# Altium footprint library Footprint.PcbLib: 1 footprints
Each footprint in its own frame and in the unit in brackets; x right, y up, seen from the top. Pads: shape width x height; smd on the part's side, far side on the other; paste and mask are expansions set on the pad; w line width, h text height; cw(c..) or ccw(c..) is an arc to the next point about the centre after c.
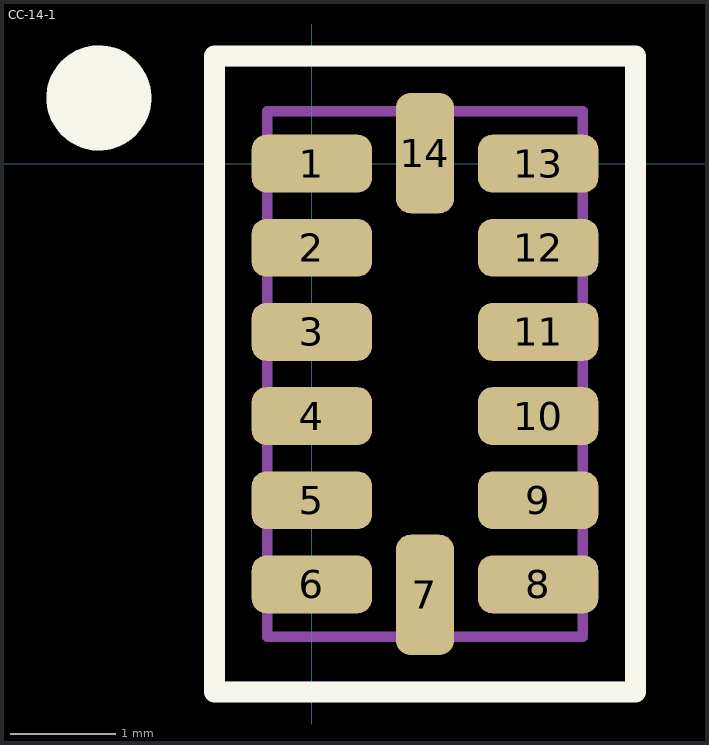
[diagram p0: the footprint, top view; thin cyan lines are the x and y axes]

## CC-14-1 [mm] "LGA, 14-Leads, Body 5.00x3.00 mm, IPC Medium Density"
height 1
pads (14):
  rrect50% 1.145x0.55 smd mask+0.045: 1(0,0) 2(0,-0.8) 3(0,-1.6) 4(0,-2.4) 5(0,-3.2) 6(0,-4) 8(2.15,-4) 9(2.15,-3.2) 10(2.15,-2.4) 11(2.15,-1.6) 12(2.15,-0.8) 13(2.15,0)
  rrect50% 0.55x1.145 smd mask+0.045: 7(1.075,-4.1) 14(1.075,0.1)
Top Overlay:
  circle w0.5: c-2.025,0.625 r0.25
  lines w0.2: -0.925,-5.025 3.075,-5.025 3.075,1.025 -0.925,1.025 -0.925,-5.025
Top Pattern:
  lines w0.1: -0.425,-4.5 2.575,-4.5 2.575,0.5 -0.425,0.5 -0.425,-4.5
  text ".Designator" at -1.025,1.45 h1.52
Courtyard:
  lines w0.1: -0.875,-4.975 3.025,-4.975 3.025,0.975 -0.875,0.975 -0.875,-4.975
3D body "CC-14-1.step": height 1, standoff 0, extent -0.425,-4.5 2.575,0.5